# Altium integrated library Board3.IntLib: 41 symbols
Pins are listed as number, name and electrical type; pins without a type are passive.

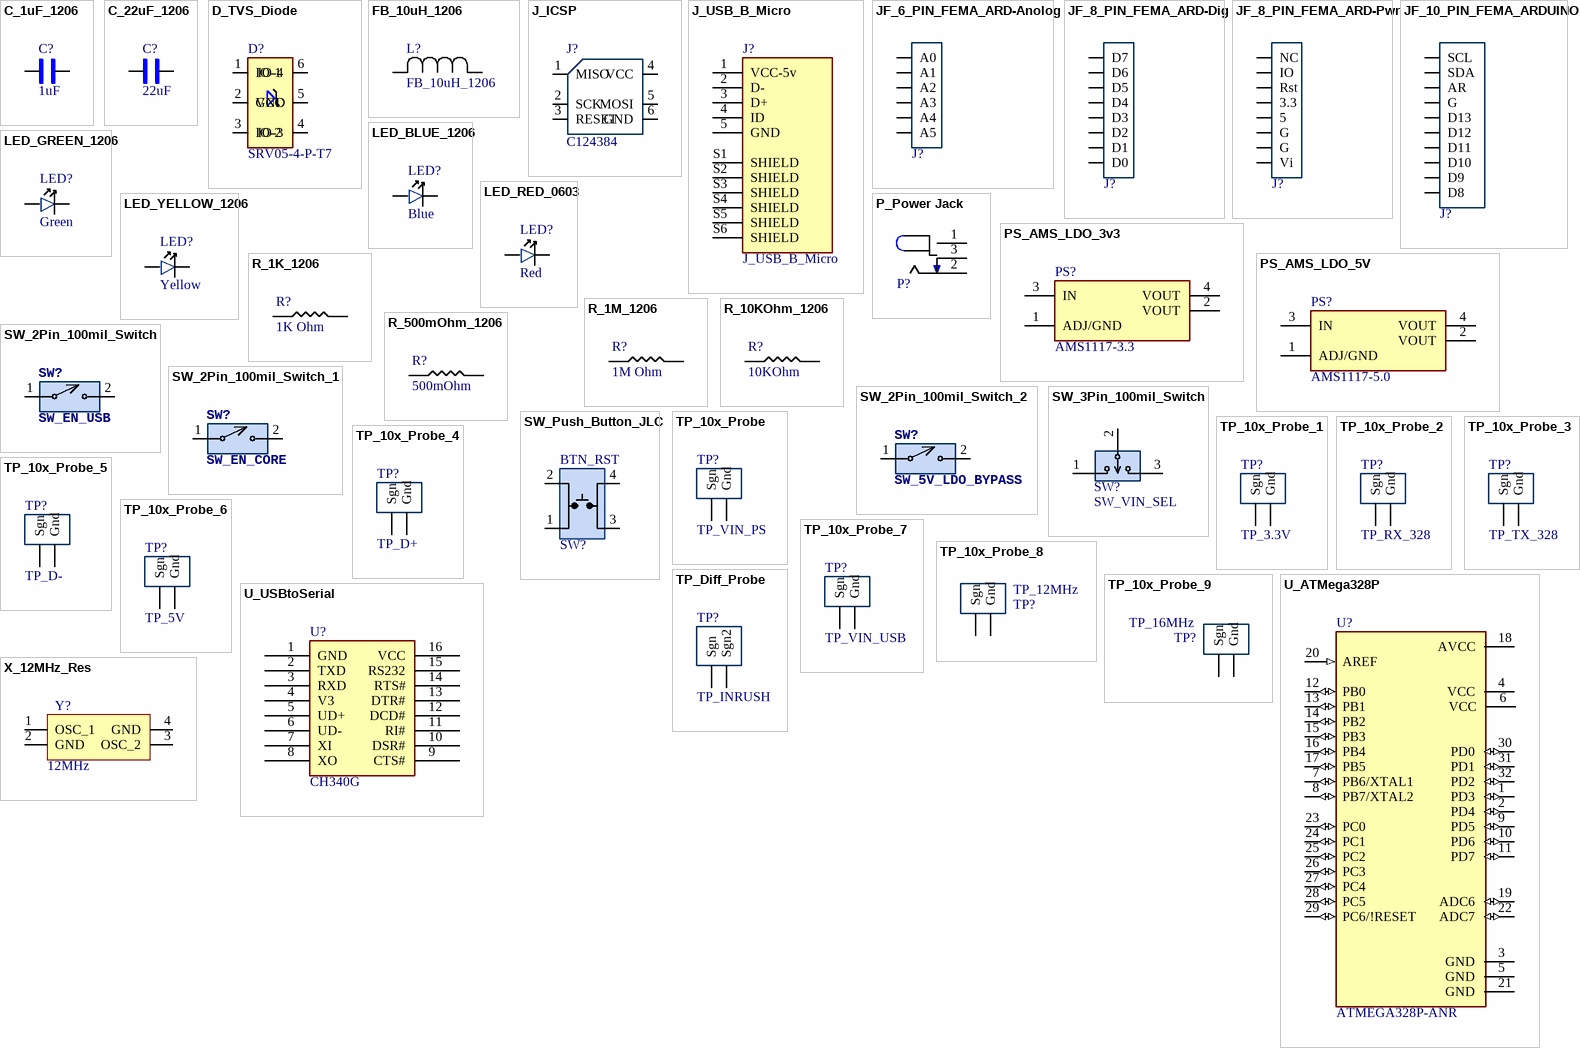
[diagram p0: symbols C_1uF_1206 to X_12MHz_Res]

## C_1uF_1206
designator C?, comment 1uF
MULTILAYER CERAMIC CAPACITORS MLCC - SMD/SMT 1UF 50V 1206 ROHS; MFR Part #: CL31B105KBHNNNE; Type: Basic; Digikey Link: https://www.digikey.com/product-detail/en/C1206C105M4RACTU/399-8150-1-ND/3471873/?itemSeq=304982366; LCSC Part#: C1848; Value: 1uF
footprint 1206_Passive_Capacitor
pins: 1, 2

## C_22uF_1206
designator C?, comment 22uF
22uF ±10% 25V X5R 1206 Multilayer Ceramic Capacitors MLCC - SMD/SMT RoHS; MFR Part #: CL31A226KAHNNNE; Type: basic; LCSC Part#: C12891; Datasheet: https://datasheet.lcsc.com/lcsc/1811031514_Samsung-Electro-Mechanics-CL31A226KAHNNNE_C12891.pdf; Value: 22uF
footprint 1206_Passive_Capacitor
pins: 1, 2

## D_TVS_Diode
designator D?, comment SRV05-4-P-T7
TVS SOT-23-6 ROHS; Value: TVS DIODE 5.5V 6TSOP; Type: Basic; MFR Part #: SRV05-4-P-T7; LCSC Part#: C85364; Datasheet: https://datasheet.lcsc.com/szlcsc/ProTek-Devices-SRV05-4-P-T7_C85364.pdf
footprint TVS
pins: 1 IO-1, 2 GND, 3 IO-2, 4 IO-3, 5 VCC, 6 IO-4

## FB_10uH_1206
designator L?
25mA 10uH ±10% 800mΩ 1206  Inductors (SMD) ROHS; Mfr_Name: FH (Guangdong Fenghua Advanced Tech); MFR PART #: CMI321609X100KT; Type: Basic; LCSC PART#: C1051; DataSheet: https://datasheet.lcsc.com/lcsc/1810311314_FH--Guangdong-Fenghua-Advanced-Tech-CMI321609X100KT_C1051.pdf
footprint AIML-1206_ABR-M
pins: 1, 2

## J_ICSP
designator J?, comment LCSC Part#: C124384  (hidden comment: NRPN032PAEN-RC)
Connector Header Through Hole 6 position 0.079" (2.00mm); Digikey Link: https://www.digikey.com/product-detail/en/NRPN032PAEN-RC/S5801-03-ND/804955/?itemSeq=304982355; MFR Part #: NRPN032PAEN-RC; Type: Extended
footprint ICSP
pins: 1 MISO, 2 SCK, 3 RESET, 4 VCC, 5 MOSI, 6 GND

## J_USB_B_Micro
designator J?
Micro Usb, 2.0 Type b, Rcpt, Smt; MFR: Amphenol ICC; MFR Part #: 10118194-0001LF; Digikey link: https://www.digikey.com/en/products/detail/amphenol-cs-fci/10118194-0001LF/2785389?s=N4IgTCBcDaIAQEYAMCEA4EE4AsBaJBCAMgGJwgC6AvkA; DataSheet: https://www.amphenol-cs.com/media/wysiwyg/files/drawing/10118194.pdf; LCSC Part#: C132563; Type: Extended
footprint AMPHENOL_10118194-0001LF
pins: 1 VCC-5v (power), 2 D-, 3 D+, 4 ID, 5 GND, S1 SHIELD, S2 SHIELD, S3 SHIELD, S4 SHIELD, S5 SHIELD, S6 SHIELD

## JF_6_PIN_FEMA_ARD-Anolog
designator J?, comment PPTC061LFBN-RC  (value not drawn)
6 Position Header Connector 0.100" (2.54mm) Through Hole Tin; Value: Female; Digikey Link: https://www.digikey.com/product-detail/en/PPTC061LFBN-RC/S7004-ND/810145/?itemSeq=304982353; MFR Part #: PPTC061LFBN-RC; LCSC Part#: C40877; Type: Extended
footprint 6_PIN_ARD-Analog_100mil
pins: 1 A0, 2 A1, 3 A2, 4 A3, 5 A4, 6 A5

## JF_8_PIN_FEMA_ARD-Dig
designator J?, comment PPTC081LFBN-RC  (value not drawn)
8 Position Header Connector 0.100" (2.54mm) Through Hole Tin; Value: Female; Digikey Link: https://www.digikey.com/product-detail/en/PPTC081LFBN-RC/S7006-ND/810147/?itemSeq=304982354; MFR Part #: PPTC081LFBN-RC; Type: Extended; LCSC Part#: C27438
footprint 8_PIN_ARD-DIG_100MIL
pins: 1 D7, 2 D6, 3 D5, 4 D4, 5 D3, 6 D2, 7 D1, 8 D0

## JF_8_PIN_FEMA_ARD-Pwr
designator J?, comment PPTC081LFBN-RC  (value not drawn)
8 Position Header Connector 0.100" (2.54mm) Through Hole Tin; Value: Female; Digikey Link: https://www.digikey.com/product-detail/en/PPTC081LFBN-RC/S7006-ND/810147/?itemSeq=304982354; MFR Part #: PPTC081LFBN-RC; Type: Extended; LCSC Part#: C27438
footprint 8_PIN_ARD-PWR_100MIL
pins: 1 NC, 2 IO, 3 Rst, 4 3.3, 5, 6 G, 7 G, 8 Vi

## JF_10_PIN_FEMA_ARDUINO
designator J?, comment PPTC101LFBN-RC  (value not drawn)
10 Position Header Connector 0.100" (2.54mm) Through Hole Tin; Value: Female; Digikey Link: https://www.digikey.com/product-detail/en/PPTC101LFBN-RC/S7008-ND/810149/?itemSeq=304982352; MFR Part #: PPTC101LFBN-RC; LCSC Part#: C225507; Type: Extended
footprint 10_PIN_ARDUINO_100MIL
pins: 1 SCL, 2 SDA, 3 AR, 4 G, 5 D13, 6 D12, 7 D11, 8 D10, 9 D9, 10 D8

## LED_BLUE_1206
designator LED?, comment Blue
blue 1206  Light Emitting Diodes (LED) ROHS; MFR Part #: NCD1206B1; Type: Extended; LCSC Part#: C130717; Datasheet: https://datasheet.lcsc.com/lcsc/2008201033_Foshan-NationStar-Optoelectronics-NCD1206B1_C130717.pdf; Value: Blue
footprint LED_1206
pins: 1, 2

## LED_GREEN_1206
designator LED?, comment Green
Green 513~528nm 1206 Light Emitting Diodes (LED) RoHS; MFR Part #: SZYY1206G; Type: Extended; LCSC Part#: C434439; Datasheet: https://datasheet.lcsc.com/lcsc/2006301532_Yongyu-Photoelectric-SZYY1206G_C434439.pdf; Value: Green
footprint LED_1206
pins: 1, 2

## LED_RED_0603
designator LED?, comment value Red  (hidden comment: 0603R)
LIGHT EMITTING DIODES (LED) RED 520~625NM 90~100MCD@20MA TOP VIEW 0603 ROHS; MFR Part #: KT-0603R; Type: Basic; Datasheet: https://datasheet.lcsc.com/szlcsc/Everlight-Elec-19-217-BHC-ZL1M2RY-3T_C72041.pdf; LCSC Part#: C2286
footprint LED_0603
pins: 1, 2

## LED_YELLOW_1206
designator LED?, comment Yellow
yellow 1206  Light Emitting Diodes (LED) ROHS; MFR Part #: NCD1206Y1; Type: Extended; LCSC Part#: C93094; Datasheet: https://datasheet.lcsc.com/lcsc/2008201033_Foshan-NationStar-Optoelectronics-NCD1206Y1_C93094.pdf; Value: Yellow
footprint LED_1206
pins: 1, 2

## P_Power Jack
designator P?, comment Power Jack  (value not drawn)
Power Barrel Connector Jack 2.10mm ID (0.083"), 5.50mm OD (0.217") Through Hole, Right Angle; MFR Part #: PJ-102A; Value: CONN PWR JACK 2X5.5MM SOLDER; Digikey Link: https://www.digikey.com/product-detail/en/PJ-102A/CP-102A-ND/275425/?itemSeq=304982367; LCSC Part#: C136744; Type: Extended
footprint Power_Jack
pins: 1 (power), 2 (power), 3 (power)

## PS_AMS_LDO_3v3
designator PS?, comment AMS1117-3.3
LOW DROPOUT REGULATORS(LDO) POSITIVE FIXED 1.3V @ 800MA 15V 3.3V 1A SOT-223 ROHS; Value: IC REG LINEAR 3.3V 800MA SOT223; MFR Part #: AMS1117-3.3; LCSC Part#: C6186; Type: Basic
footprint LDO
pins: 1 ADJ/GND, 2 VOUT (power), 3 IN (power), 4 VOUT (power)

## PS_AMS_LDO_5V
designator PS?, comment AMS1117-5.0
LOW DROPOUT REGULATORS(LDO) POSITIVE FIXED 1.3V @ 1A 15V 5V 1A SOT-223 ROHS; Value: IC REG LINEAR 5V 1A SOT223; MFR Part #: AMS1117-5.0; LCSC Part#: C6187; Type: Basic
footprint LDO
pins: 1 ADJ/GND, 2 VOUT (power), 3 IN (power), 4 VOUT (power)

## R_1K_1206
designator R?, comment value 1K Ohm  (hidden comment: 1k)
CHIP RESISTOR - SURFACE MOUNT 1KOHMS ±1% 1/4W 1206 ROHS; MFR Part #: RNCP1206FTD1K00CT; Digikey Link: https://www.digikey.com/product-detail/en/RNCP1206FTD1K00/RNCP1206FTD1K00CT-ND/2240675/?itemSeq=304982373; LCSC Part#: C4410; Type: Basic
footprint 1206_Passive_Resitor
pins: 1, 2

## R_1M_1206
designator R?, comment value 1M Ohm  (hidden comment: 1M)
CHIP RESISTOR - SURFACE MOUNT 1MOHMS ±1% 1/4W 1206 ROHS; MFR Part #: RMCF1206JT1M00; Digikey Link: https://www.digikey.com/product-detail/en/RMCF1206JT1M00/RMCF1206JT1M00CT-ND/1942830/?itemSeq=304982358; LCSC Part#: C17927; Type: Basic
footprint 1206_Passive_Resitor
pins: 1, 2

## R_10KOhm_1206
designator R?, comment value 10KOhm  (hidden comment: 10k)
10 kOhms ±5% 0.25W, 1/4W Chip Resistor 1206 (3216 Metric) Automotive AEC-Q200 Thick Film; MFR Part #: RMCF1206FT10K0; Digikey Link: https://www.digikey.com/en/products/detail/stackpole-electronics-inc/RMCF1206FT10K0/1759669; LCSC Part#: C17902; Type: Basic
footprint 1206_Passive_Resitor
pins: 1, 2

## R_500mOhm_1206
designator R?, comment value 500mOhm  (hidden comment: 500m)
Resistors/Shunt 250mW 500mΩ ±800ppm/℃ ±5% 1206  Current Sense  Resistors ROHS; MFR Part #: 1206W4J050KT5E; Datasheet: https://datasheet.lcsc.com/lcsc/1810301438_UNI-ROYAL-Uniroyal-Elec-1206W4J050KT5E_C247433.pdf; LCSC Part#: C247433; Type: Extended
footprint 1206_Passive_Resitor
pins: 1, 2

## SW_2Pin_100mil_Switch
designator SW?, comment SW_EN_USB
2Pin Header; LCSC Part#: C124375; Type: Extended
footprint 2Pin-Header-Conn
pins: 1, 2

## SW_2Pin_100mil_Switch_1
designator SW?, comment SW_EN_CORE
2Pin Header; LCSC Part#: C124375; Type: Extended
footprint 2Pin-Header-Conn
pins: 1, 2

## SW_2Pin_100mil_Switch_2
designator SW?, comment SW_5V_LDO_BYPASS
2Pin Header; LCSC Part#: C124375; Type: Extended
footprint 2Pin-Header-Conn
pins: 1, 2

## SW_3Pin_100mil_Switch
designator SW?, comment SW_VIN_SEL
Connector Header Through Hole 3 position 0.100" (2.54mm); MFR Part #: PREC003SAAN-RC; Value: CONN HEADER VERT 3POS 2.54MM; Digikey Link: https://www.digikey.com/product-detail/en/PREC003SAAN-RC/S1012EC-03-ND/2774851/?itemSeq=304982371; Type: Extended; LCSC Part#: C49257
footprint 3_PIN_100mil
pins: 1, 2, 3

## SW_Push_Button_JLC
designator SW?, comment BTN_RST
Tactile Switch SPST-NO Top Actuated Surface Mount; MFR Part #: KH-4.5X4.5X4.3H-STM; LCSC Part#: C2837550; Type: Extended; DataSheet: https://datasheet.lcsc.com/lcsc/2106081532_Shenzhen-Kinghelm-Elec-KH-4.5X4.5X4.3H-STM_C2837550.pdf
footprint Switch_JLC
pins: 1, 2, 3, 4

## TP_10x_Probe
designator TP?, comment TP_VIN_PS
Test Point 300 mil centers
footprint TP10x_Probe (Small Probs footprint)
pins: 1 Sgn, 2 Gnd

## TP_10x_Probe_1
designator TP?, comment TP_3.3V
Test Point 300 mil centers
footprint TP10x_Probe (Small Probs footprint)
pins: 1 Sgn, 2 Gnd

## TP_10x_Probe_2
designator TP?, comment TP_RX_328
Test Point 300 mil centers
footprint TP10x_Probe (Small Probs footprint)
pins: 1 Sgn, 2 Gnd

## TP_10x_Probe_3
designator TP?, comment TP_TX_328
Test Point 300 mil centers
footprint TP10x_Probe (Small Probs footprint)
pins: 1 Sgn, 2 Gnd

## TP_10x_Probe_4
designator TP?, comment TP_D+
Test Point 300 mil centers
footprint TP10x_Probe (Small Probs footprint)
pins: 1 Sgn, 2 Gnd

## TP_10x_Probe_5
designator TP?, comment TP_D-
Test Point 300 mil centers
footprint TP10x_Probe (Small Probs footprint)
pins: 1 Sgn, 2 Gnd

## TP_10x_Probe_6
designator TP?, comment TP_5V
Test Point 300 mil centers
footprint TP10x_Probe (Small Probs footprint)
pins: 1 Sgn, 2 Gnd

## TP_10x_Probe_7
designator TP?, comment TP_VIN_USB
Test Point 300 mil centers
footprint TP10x_Probe (Small Probs footprint)
pins: 1 Sgn, 2 Gnd

## TP_10x_Probe_8
designator TP?, comment TP_12MHz
Test Point 300 mil centers
footprint TP10x_Probe (Small Probs footprint)
pins: 1 Sgn, 2 Gnd

## TP_10x_Probe_9
designator TP?, comment TP_16MHz
Test Point 300 mil centers
footprint TP10x_Probe (Small Probs footprint)
pins: 1 Sgn, 2 Gnd

## TP_Diff_Probe
designator TP?, comment TP_INRUSH
Test Point 300 mil centers
footprint TP_Diff_Probe
pins: 1 Sgn, 2 Sgn2

## U_ATMega328P
designator U?, comment ATMEGA328P-ANR
AVR AVR® ATmega Microcontroller IC 8-Bit 20MHz 32KB (16K x 16) FLASH 32-TQFP (7x7); MFR Part #: ATMEGA328P-AU; Value: IC MCU 8BIT 32KB FLASH 32TQFP; Digikey Link: https://www.digikey.com/product-detail/en/ATMEGA328P-ANR/ATMEGA328P-ANRCT-ND/2774230/?itemSeq=304982365; LCSC Part#: C14877; Type: Basic
footprint ATMega328P
pins: 1 PD3 (io), 2 PD4 (io), 3 GND (power), 4 VCC (power), 5 GND (power), 6 VCC (power), 7 PB6/XTAL1 (io), 8 PB7/XTAL2 (io), 9 PD5 (io), 10 PD6 (io), 11 PD7 (io), 12 PB0 (io), 13 PB1 (io), 14 PB2 (io), 15 PB3 (io), 16 PB4 (io), 17 PB5 (io), 18 AVCC (power), 19 ADC6 (io), 20 AREF (in), 21 GND (power), 22 ADC7 (io), 23 PC0 (io), 24 PC1 (io), 25 PC2 (io), 26 PC3 (io), 27 PC4 (io), 28 PC5 (io), 29 PC6/!RESET (io), 30 PD0 (io), 31 PD1 (io), 32 PD2 (io)

## U_USBtoSerial
designator U?, comment CH340G
Transceiver USB 2.0 2Mbps SOP-16_150mil USB ICs RoHS; Value: USB to Serial; Datasheet: https://datasheet.lcsc.com/lcsc/2008191806_WCH-Jiangsu-Qin-Heng-CH340G_C14267.pdf; LCSC Part#: C14267; MFR Part #: CH340G; Type: Basic
footprint USB to serial
pins: 1 GND, 2 TXD, 3 RXD, 4 V3, 5 UD+, 6 UD-, 7 XI, 8 XO, 9 CTS#, 10 DSR#, 11 RI#, 12 DCD#, 13 DTR#, 14 RTS#, 15 RS232, 16 VCC

## X_12MHz_Res
designator Y?, comment 12MHz
SMD Crystal Resonators 12MHz ±10ppm SMD-3225_4P RoHS; MFR Part #: X322512MSB4SI; LCSC Part#: C9002; Value: 12MHz; Type: Basic; Datasheet: https://datasheet.lcsc.com/szlcsc/Yangxing-Tech-X322512MSB4SI_C9002.pdf
footprint Crystal resonator
pins: 1 OSC_1, 2 GND, 3 OSC_2, 4 GND

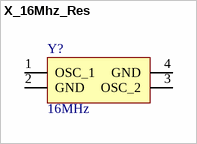
[diagram p1: symbol X_16Mhz_Res]

## X_16Mhz_Res
designator Y?, comment value 16MHz  (hidden comment: X322516MLB4SI)
±10ppm 16000000Hz -40℃~85℃ 贴片无源晶振 60Ω 9pF SMD3225-4P Crystals ROHS; LCSC Part#: C13738; MFR Part #: X322516MLB4SI; Type: Basic
footprint Crystal resonator
pins: 1 OSC_1, 2 GND, 3 OSC_2, 4 GND